# Altium integrated library ISSI SRAM Synchronous SRAM No-Wait(ZBT).IntLib: 1246 symbols (part 113 of 152)
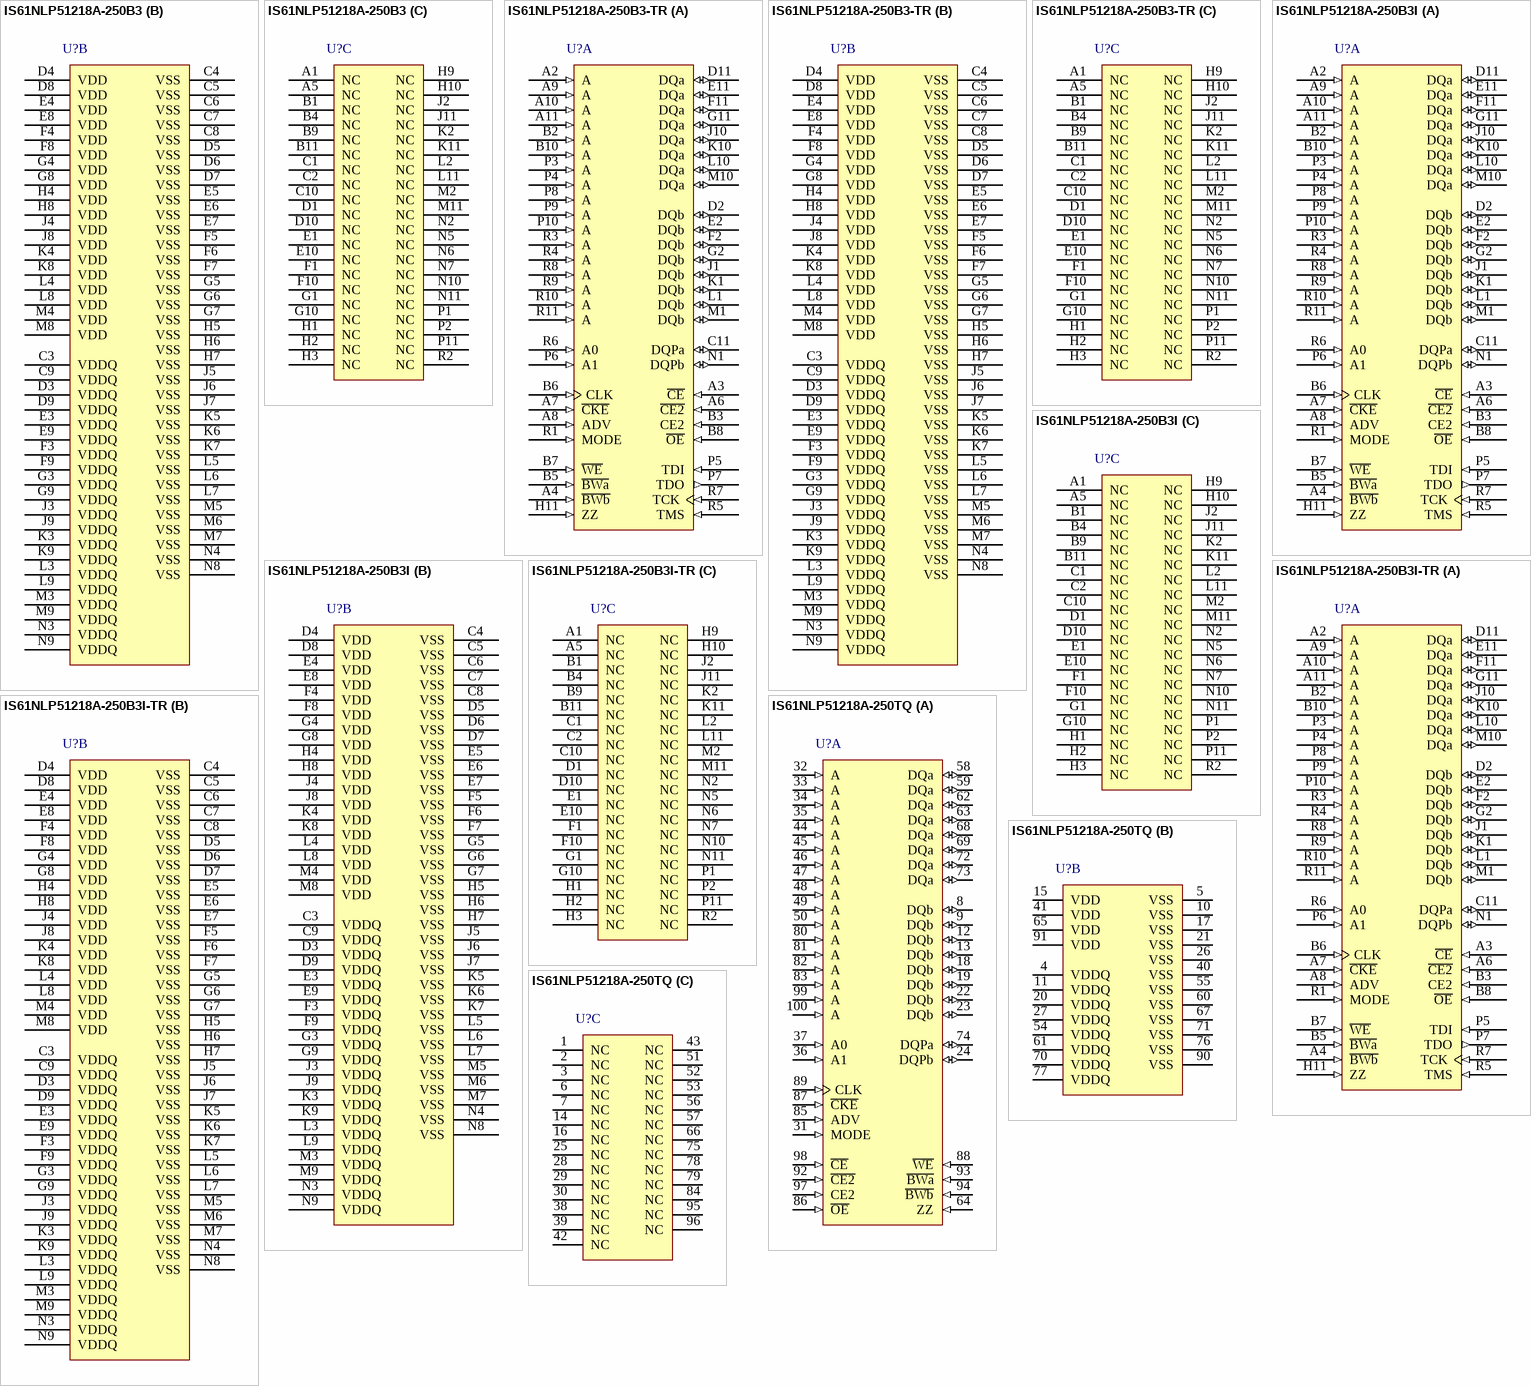
[diagram p395: symbols IS61NLP51218A-250B3 to IS61NLP51218A-250TQ]

## IS61NLP51218A-250B3I
designator U?
9 M Pipeline 'No Wait' State Bus SRAM, 512 K x 18, -40 to 85 degC, 165-Pin BGA (TF-BGA-165); Manufacturer: Integrated Silicon Solution Inc (ISSI); PartNumber: IS61NLP51218A-250B3I; Density: 9M; Packing: Tube / Tray; Vcc: 3.3 V; VccQ: 2.5 / 3.3 V; DatasheetVersion: Rev. I; PackageVersion: Rev. B, 08/2008; PackageReference: TF-BGA-165; PackageDescription: 165-Pin 13 x 15 mm TF-BGA, Pitch 1 mm; Organization: 512Kx18; Mounting Technology: Surface Mount; ComponentLink1Description: Manufacturer URL; ComponentLink1URL: http://www.issi.com/US/index.shtml; ComponentLink2Description: Datasheet; ComponentLink2URL: http://www.issi.com/WW/pdf/61NLP_NVP25636A_51218A.pdf; ComponentLink3Description: Package Specification; ComponentLink3URL: http://www.issi.com/WW/pdf/61NLP_NVP25636A_51218A.pdf
footprint ISSI-TF-BGA-165-13000X15000DE (BGA, 165-Balls, Body 15x13mm, Pitch 1mm)
part A pins: A2 A (in) "Address Inputs", A3 ~{CE} (in) "Synchronous Chip Enable", A4 ~{BWb} (in) "Synchronous Byte Write Inputs", A6 ~{CE2} (in) "Synchronous Chip Enable", A7 ~{CKE} (in) "Clock Enable", A8 ADV (in) "Synchronous Burst Address Advance/Load", A9 A (in) "Address Inputs", A10 A (in) "Address Inputs", A11 A (in) "Address Inputs", B2 A (in) "Address Inputs", B3 CE2 (in) "Synchronous Chip Enable", B5 ~{BWa} (in) "Synchronous Byte Write Inputs", B6 CLK (in) "Synchronous Clock", B7 ~{WE} (in) "Synchronous Read/Write Control", B8 ~{OE} (in) "Output Enable", B10 A (in) "Address Inputs", C11 DQPa (io) "Parity Data I/O", D2 DQb (io) "Data Inputs/Outputs", D11 DQa (io) "Data Inputs/Outputs", E2 DQb (io) "Data Inputs/Outputs", E11 DQa (io) "Data Inputs/Outputs", F2 DQb (io) "Data Inputs/Outputs", F11 DQa (io) "Data Inputs/Outputs", G2 DQb (io) "Data Inputs/Outputs", G11 DQa (io) "Data Inputs/Outputs", H11 ZZ (in) "Power Sleep Mode", J1 DQb (io) "Data Inputs/Outputs", J10 DQa (io) "Data Inputs/Outputs", K1 DQb (io) "Data Inputs/Outputs", K10 DQa (io) "Data Inputs/Outputs", L1 DQb (io) "Data Inputs/Outputs", L10 DQa (io) "Data Inputs/Outputs", M1 DQb (io) "Data Inputs/Outputs", M10 DQa (io) "Data Inputs/Outputs", N1 DQPb (io) "Parity Data I/O", P3 A (in) "Address Inputs", P4 A (in) "Address Inputs", P5 TDI (in) "JTAG Pins", P6 A1 (in) "Synchronous Burst Address Inputs", P7 TDO (out) "JTAG Pins", P8 A (in) "Address Inputs", P9 A (in) "Address Inputs", P10 A (in) "Address Inputs", R1 MODE (in) "Burst Sequence Selection", R3 A (in) "Address Inputs", R4 A (in) "Address Inputs", R5 TMS (in) "JTAG Pins", R6 A0 (in) "Synchronous Burst Address Inputs", R7 TCK (in) "JTAG Pins", R8 A (in) "Address Inputs", R9 A (in) "Address Inputs", R10 A (in) "Address Inputs", R11 A (in) "Address Inputs"
part B pins: C3 VDDQ (power) "Isolated output Power Supply 3.3V/2.5V", C4 VSS (power) "Ground", C5 VSS (power) "Ground", C6 VSS (power) "Ground", C7 VSS (power) "Ground", C8 VSS (power) "Ground", C9 VDDQ (power) "Isolated output Power Supply 3.3V/2.5V", D3 VDDQ (power) "Isolated output Power Supply 3.3V/2.5V", D4 VDD (power) "3.3V/2.5V Power Supply", D5 VSS (power) "Ground", D6 VSS (power) "Ground", D7 VSS (power) "Ground", D8 VDD (power) "3.3V/2.5V Power Supply", D9 VDDQ (power) "Isolated output Power Supply 3.3V/2.5V", E3 VDDQ (power) "Isolated output Power Supply 3.3V/2.5V", E4 VDD (power) "3.3V/2.5V Power Supply", E5 VSS (power) "Ground", E6 VSS (power) "Ground", E7 VSS (power) "Ground", E8 VDD (power) "3.3V/2.5V Power Supply", E9 VDDQ (power) "Isolated output Power Supply 3.3V/2.5V", F3 VDDQ (power) "Isolated output Power Supply 3.3V/2.5V", F4 VDD (power) "3.3V/2.5V Power Supply", F5 VSS (power) "Ground", F6 VSS (power) "Ground", F7 VSS (power) "Ground", F8 VDD (power) "3.3V/2.5V Power Supply", F9 VDDQ (power) "Isolated output Power Supply 3.3V/2.5V", G3 VDDQ (power) "Isolated output Power Supply 3.3V/2.5V", G4 VDD (power) "3.3V/2.5V Power Supply", G5 VSS (power) "Ground", G6 VSS (power) "Ground", G7 VSS (power) "Ground", G8 VDD (power) "3.3V/2.5V Power Supply", G9 VDDQ (power) "Isolated output Power Supply 3.3V/2.5V", H4 VDD (power) "3.3V/2.5V Power Supply", H5 VSS (power) "Ground", H6 VSS (power) "Ground", H7 VSS (power) "Ground", H8 VDD (power) "3.3V/2.5V Power Supply", J3 VDDQ (power) "Isolated output Power Supply 3.3V/2.5V", J4 VDD (power) "3.3V/2.5V Power Supply", J5 VSS (power) "Ground", J6 VSS (power) "Ground", J7 VSS (power) "Ground", J8 VDD (power) "3.3V/2.5V Power Supply", J9 VDDQ (power) "Isolated output Power Supply 3.3V/2.5V", K3 VDDQ (power) "Isolated output Power Supply 3.3V/2.5V", K4 VDD (power) "3.3V/2.5V Power Supply", K5 VSS (power) "Ground", K6 VSS (power) "Ground", K7 VSS (power) "Ground", K8 VDD (power) "3.3V/2.5V Power Supply", K9 VDDQ (power) "Isolated output Power Supply 3.3V/2.5V", L3 VDDQ (power) "Isolated output Power Supply 3.3V/2.5V", L4 VDD (power) "3.3V/2.5V Power Supply", L5 VSS (power) "Ground", L6 VSS (power) "Ground", L7 VSS (power) "Ground", L8 VDD (power) "3.3V/2.5V Power Supply", L9 VDDQ (power) "Isolated output Power Supply 3.3V/2.5V", M3 VDDQ (power) "Isolated output Power Supply 3.3V/2.5V", M4 VDD (power) "3.3V/2.5V Power Supply", M5 VSS (power) "Ground", M6 VSS (power) "Ground", M7 VSS (power) "Ground", M8 VDD (power) "3.3V/2.5V Power Supply", M9 VDDQ (power) "Isolated output Power Supply 3.3V/2.5V", N3 VDDQ (power) "Isolated output Power Supply 3.3V/2.5V", N4 VSS (power) "Ground", N8 VSS (power) "Ground", N9 VDDQ (power) "Isolated output Power Supply 3.3V/2.5V"
part C pins: A1 NC "No Connect", A5 NC "No Connect", B1 NC "No Connect", B4 NC "No Connect", B9 NC "No Connect", B11 NC "No Connect", C1 NC "No Connect", C2 NC "No Connect", C10 NC "No Connect", D1 NC "No Connect", D10 NC "No Connect", E1 NC "No Connect", E10 NC "No Connect", F1 NC "No Connect", F10 NC "No Connect", G1 NC "No Connect", G10 NC "No Connect", H1 NC "No Connect", H2 NC "No Connect", H3 NC "No Connect", H9 NC "No Connect", H10 NC "No Connect", J2 NC "No Connect", J11 NC "No Connect", K2 NC "No Connect", K11 NC "Data Inputs/Outputs", L2 NC "No Connect", L11 NC "No Connect", M2 NC "No Connect", M11 NC "No Connect", N2 NC "No Connect", N5 NC "No Connect", N6 NC "No Connect", N7 NC "No Connect", N10 NC "No Connect", N11 NC "No Connect", P1 NC "No Connect", P2 NC "No Connect", P11 NC "No Connect", R2 NC "No Connect"